# EAGLE library part MPU-6881 (library Sparkfun)
2 – 6, 14 - 17 NC Not internally connected. May be used for PCB trace routing.
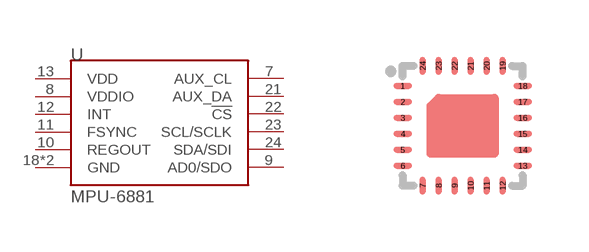
[diagram p1: symbol with the pads of QFN24_PAD; footprint QFN24_PAD]

Designator prefix U

## MPU-6881  [QFN24_PAD]
7  AUX_CL
8  VDDIO
9  AD0/SDO
10  REGOUT
11  FSYNC
12  INT
13  VDD
18  GND
20  GND
21  AUX_DA
22  !CS
23  SCL/SCLK
24  SDA/SDI

## Footprint QFN24_PAD (pad centres in mm)
SparkFun IMU Breakout - MPU-9250; https://github.com/sparkfun/MPU-9250_Breakout; https://www.sparkfun.com/products/13762; Built for the MPU-9250 using guidelines found in http://cds.linear.com/docs/en/packaging/Carsem%20MLP%20users%20guide.pdf
smd 0.457 x 0.152: 1 -1.5,1; 2 -1.5,0.6; 3 -1.5,0.2; 4 -1.5,-0.2; 5 -1.5,-0.6; 6 -1.5,-1; 13 1.5,-1; 14 1.5,-0.6; 15 1.5,-0.2; 16 1.5,0.2; 17 1.5,0.6; 18 1.5,1
smd 0.152 x 0.457: 7 -1,-1.5; 8 -0.6,-1.5; 9 -0.2,-1.5; 10 0.2,-1.5; 11 0.6,-1.5; 12 1,-1.5; 19 1,1.5; 20 0.6,1.5; 21 0.2,1.5; 22 -0.2,1.5; 23 -0.6,1.5; 24 -1,1.5